# EAGLE library part HY_DEVBRD_BLUEPILL (library lieBtrau)
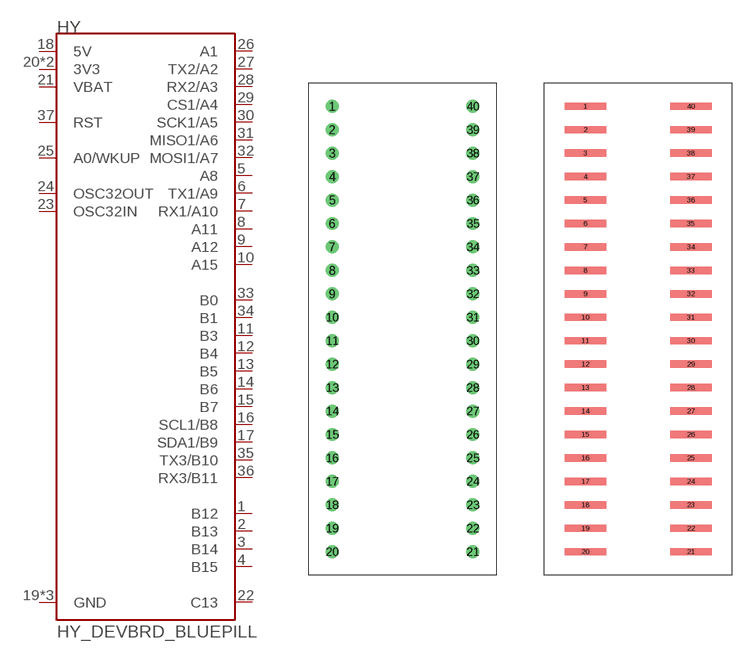
[diagram p12: symbol with the pads of HY_DEVBRD_BLUEPILL_THR; footprints HY_DEVBRD_BLUEPILL_THR, HY_DEVBRD_BLUEPILL_SMD]

Designator prefix HY

## HY_DEVBRD_BLUEPILL_THRTHR (COST: 1.30; ORDERCODE: AliExpress; VALUE: BluePill)  [HY_DEVBRD_BLUEPILL_THR]
1  B12
2  B13
3  B14
4  B15
5  A8
6  TX1/A9
7  RX1/A10
8  A11
9  A12
10  A15
11  B3
12  B4
13  B5
14  B6
15  B7
16  SCL1/B8
17  SDA1/B9
18  5V
19  GND
20  3V3
21  VBAT
22  C13
23  OSC32IN
24  OSC32OUT
25  A0/WKUP
26  A1
27  TX2/A2
28  RX2/A3
29  CS1/A4
30  SCK1/A5
31  MISO1/A6
32  MOSI1/A7
33  B0
34  B1
35  TX3/B10
36  RX3/B11
37  RST
38  3V3
39  GND
40  GND

## HY_DEVBRD_BLUEPILL  [HY_DEVBRD_BLUEPILL_SMD]
Pads as for HY_DEVBRD_BLUEPILL_THR

## Footprint HY_DEVBRD_BLUEPILL_THR (pad centres in mm)
drill 0.6 pad 1.4: 1 -7.62,20.32; 2 -7.62,17.78; 3 -7.62,15.24; 4 -7.62,12.7; 5 -7.62,10.16; 6 -7.62,7.62; 7 -7.62,5.08; 8 -7.62,2.54; 9 -7.62,0; 10 -7.62,-2.54; 11 -7.62,-5.08; 12 -7.62,-7.62; 13 -7.62,-10.16; 14 -7.62,-12.7; 15 -7.62,-15.24; 16 -7.62,-17.78; 17 -7.62,-20.32; 18 -7.62,-22.86; 19 -7.62,-25.4; 20 -7.62,-27.94; 21 7.62,-27.94; 22 7.62,-25.4; 23 7.62,-22.86; 24 7.62,-20.32; 25 7.62,-17.78; 26 7.62,-15.24; 27 7.62,-12.7; 28 7.62,-10.16; 29 7.62,-7.62; 30 7.62,-5.08; 31 7.62,-2.54; 32 7.62,0; 33 7.62,2.54; 34 7.62,5.08; 35 7.62,7.62; 36 7.62,10.16; 37 7.62,12.7; 38 7.62,15.24; 39 7.62,17.78; 40 7.62,20.32

## Footprint HY_DEVBRD_BLUEPILL_SMD (pad centres in mm)
smd 4.5 x 0.8: 1 -5.715,20.32; 2 -5.715,17.78; 3 -5.715,15.24; 4 -5.715,12.7; 5 -5.715,10.16; 6 -5.715,7.62; 7 -5.715,5.08; 8 -5.715,2.54; 9 -5.715,0; 10 -5.715,-2.54; 11 -5.715,-5.08; 12 -5.715,-7.62; 13 -5.715,-10.16; 14 -5.715,-12.7; 15 -5.715,-15.24; 16 -5.715,-17.78; 17 -5.715,-20.32; 18 -5.715,-22.86; 19 -5.715,-25.4; 20 -5.715,-27.94; 21 5.715,-27.94; 22 5.715,-25.4; 23 5.715,-22.86; 24 5.715,-20.32; 25 5.715,-17.78; 26 5.715,-15.24; 27 5.715,-12.7; 28 5.715,-10.16; 29 5.715,-7.62; 30 5.715,-5.08; 31 5.715,-2.54; 32 5.715,0; 33 5.715,2.54; 34 5.715,5.08; 35 5.715,7.62; 36 5.715,10.16; 37 5.715,12.7; 38 5.715,15.24; 39 5.715,17.78; 40 5.715,20.32